# Altium schematic symbol library CoolantMonitorLibrary.SchLib: 8 symbols
Pins are listed as number, name and electrical type; pins without a type are passive.

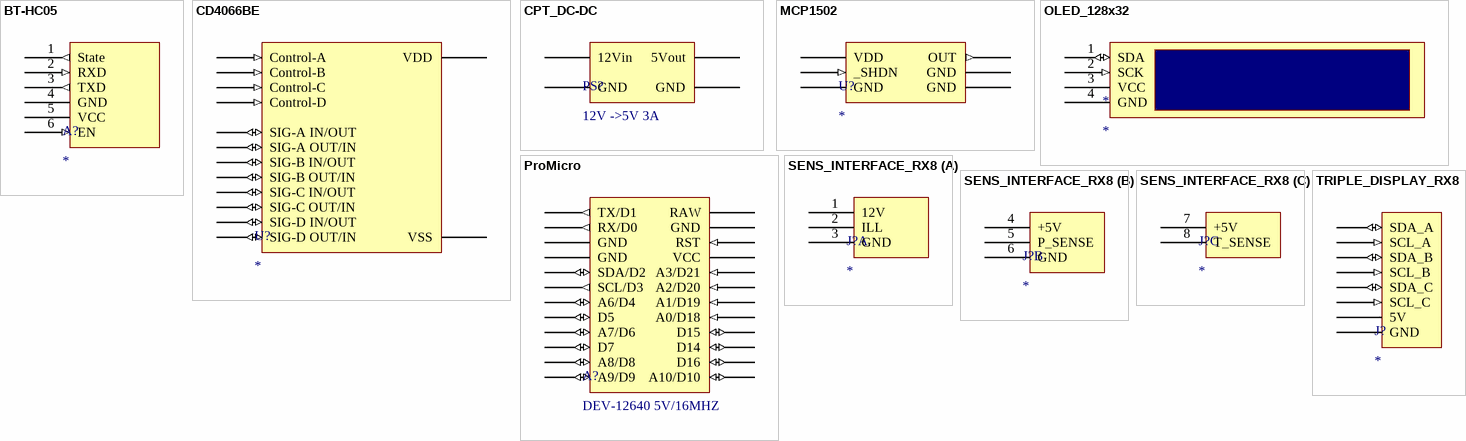
[diagram p0: symbols BT-HC05 to TRIPLE_DISPLAY_RX8]

## BT-HC05
designator A?
footprint BT-HC05
pins: 1 State (out), 2 RXD (in), 3 TXD (out), 4 GND (power), 5 VCC (power), 6 EN (in)

## CD4066BE
designator U?
Quad bilateral switch
pins: 1 SIG-A IN/OUT (io), 2 SIG-A OUT/IN (io), 3 SIG-B OUT/IN (io), 4 SIG-B IN/OUT (io), 5 Control-B (in), 6 Control-C (in), 7 VSS (power), 8 SIG-C IN/OUT (io), 9 SIG-C OUT/IN (io), 10 SIG-D OUT/IN (io), 11 SIG-D IN/OUT (io), 12 Control-D (in), 13 Control-A (in), 14 VDD (power)

## CPT_DC-DC
designator PS?, comment 12V ->5V 3A
CPT DC-DC 12V/5V 3A
pins: 1 GND (power), 2 12Vin (power) "VPP", 3 5Vout (power) "VCC", 4 GND (power)

## MCP1502
designator U?
Voltage reference
pins: 1 OUT (out), 2 GND (power), 3 GND (power), 4 _SHDN (in), 5 GND (power), 6 VDD (power)

## OLED_128x32
designator *
pins: 1 SDA (io), 2 SCK (in) "SCL", 3 VCC (power), 4 GND (power)

## ProMicro
designator A?, comment DEV-12640 5V/16MHZ
Arduino MCU
footprint ProMicro (Adruino Pro Micro)
pins: 1 TX/D1 (out) "TX", 2 RX/D0 (out) "RX", 3 GND (power), 4 GND (power), 5 SDA/D2 (io) "SDA", 6 SCL/D3 (out) "SCL", 7 A6/D4 (io) "D4", 8 D5 (io), 9 A7/D6 (io) "D6", 10 D7 (io), 11 A8/D8 (io) "D8", 12 A9/D9 (io) "D9", 13 A10/D10 (io) "D10", 14 D16 (io), 15 D14 (io), 16 D15 (io), 17 A0/D18 (in) "A0", 18 A1/D19 (in) "A1", 19 A2/D20 (in) "GND", 20 A3/D21 (in) "A3", 21 VCC (power), 22 RST (in), 23 GND (power), 24 RAW (power)

## SENS_INTERFACE_RX8
designator J?
Molex 8 pin connector; Value: Molex 1723162108
footprint MTA-100-8
part A pins: 1 12V (power), 2 ILL (power), 3 GND (power)
part B pins: 4 +5V (power), 5 P_SENSE (power), 6 GND (power)
part C pins: 7 +5V (power), 8 T_SENSE

## TRIPLE_DISPLAY_RX8
designator J?
8 Pins connector; Value: Molex 1723162108
footprint MOLEX_ULTRA_FIT_8_POS_RA (Molex Ultra-Fit 8 pos)
pins: 1 5V (power), 2 GND (power), 3 SDA_A (io), 4 SCL_A (in), 5 SDA_B (io), 6 SCL_B (in), 7 SDA_C (io), 8 SCL_C (in)